# Altium schematic symbol library Schlib1.SchLib: 4 symbols
Pins are listed as number, name and electrical type; pins without a type are passive.

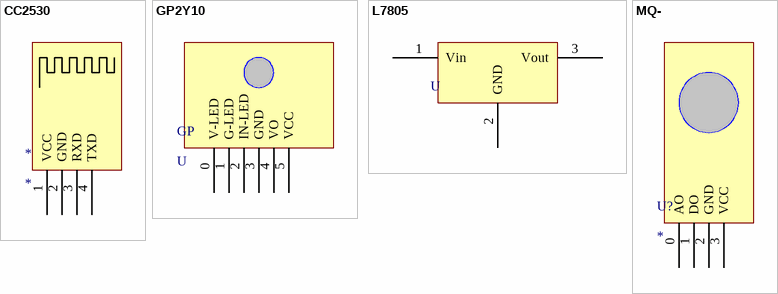
[diagram p0: symbols CC2530 to MQ-]

## CC2530
designator *
pins: 1 VCC, 2 GND, 3 RXD, 4 TXD

## GP2Y10
designator GP, comment U
pins: 0 V-LED, 1 G-LED, 2 IN-LED, 3 GND, 4 VO, 5 VCC

## L7805
designator U  (value not drawn)
pins: 1 Vin, 2 GND, 3 Vout

## MQ-
designator U?
pins: 0 AO, 1 DO, 2 GND, 3 VCC